# Altium schematic symbol library PIC.SchLib: 1 symbol
Pins are listed as number, name and electrical type; pins without a type are passive.

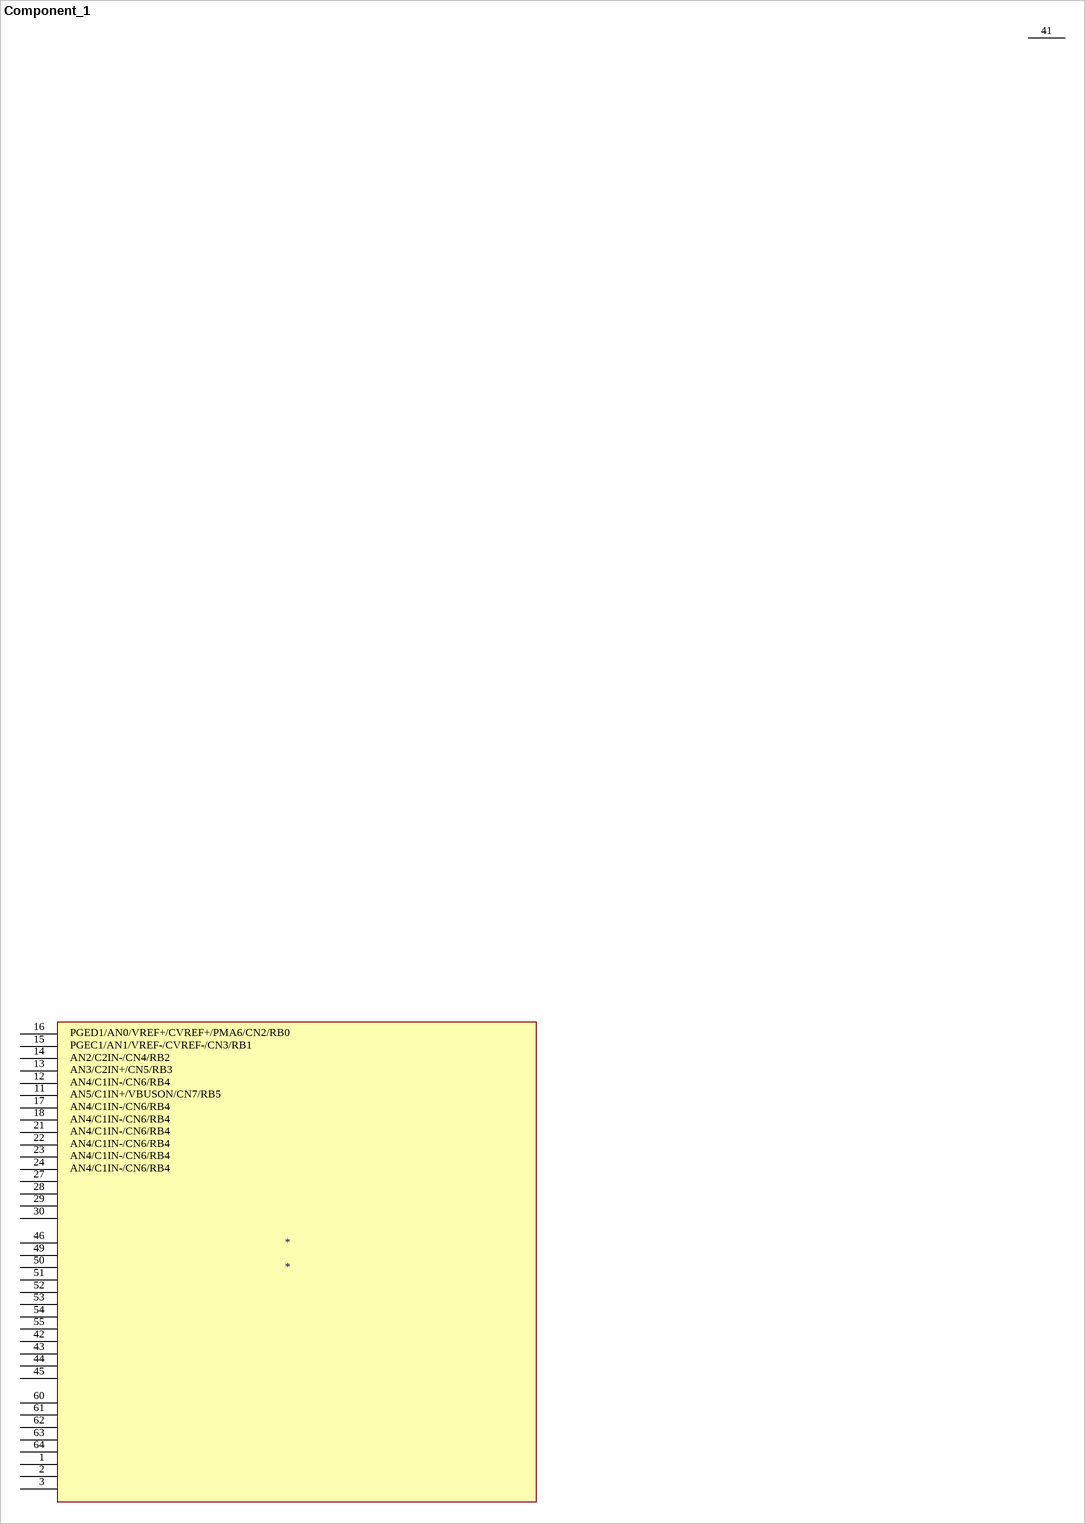
[diagram p0: symbol Component_1]

## Component_1
designator *
pins: 1 (power), 2 (power), 3 (power), 11 (power), 12 (power), 13 (power), 14 (power), 15 (power), 16 (power), 17 (power), 18 (power), 21 (power), 22 (power), 23 (power), 24 (power), 27 (power), 28 (power), 29 (power), 30 (power), 41 (power), 42 (power), 43 (power), 44 (power), 45 (power), 46 (power), 49 (power), 50 (power), 51 (power), 52 (power), 53 (power), 54 (power), 55 (power), 60 (power), 61 (power), 62 (power), 63 (power), 64 (power)
text: PGED1/AN0/VREF+/CVREF+/PMA6/CN2/RB0; PGEC1/AN1/VREF-/CVREF-/CN3/RB1; AN2/C2IN-/CN4/RB2; AN3/C2IN+/CN5/RB3; AN4/C1IN-/CN6/RB4; AN5/C1IN+/VBUSON/CN7/RB5